# Altium footprint library 5015681407.PcbLib: 1 footprints
Each footprint in its own frame and in the unit in brackets; x right, y up, seen from the top. Pads: shape width x height; smd on the part's side, far side on the other; paste and mask are expansions set on the pad; w line width, h text height; cw(c..) or ccw(c..) is an arc to the next point about the centre after c.
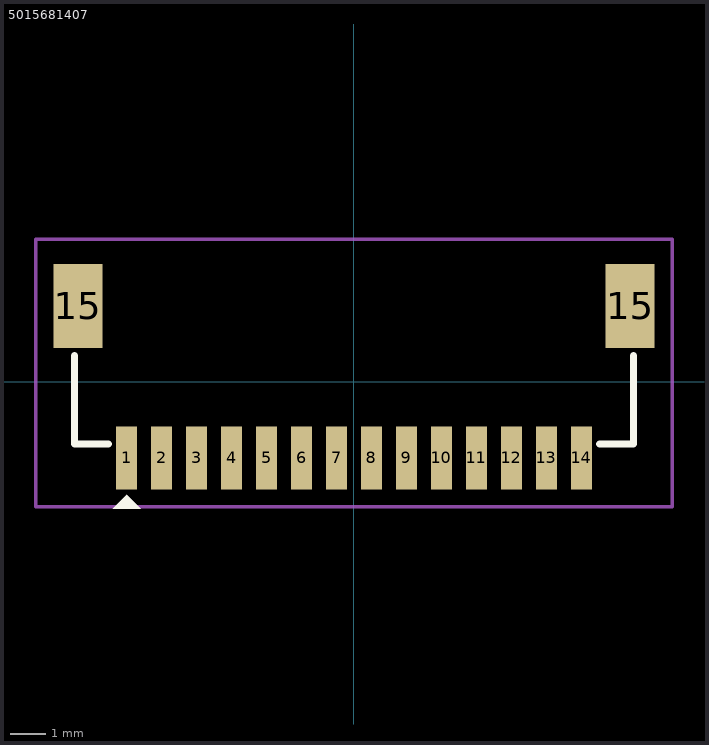
[diagram p0: the footprint, top view; thin cyan lines are the x and y axes]

## 5015681407 [mm]
pads (16):
  rect 0.6x1.8 smd: 1(-6.5,-2.175) 2(-5.5,-2.175) 3(-4.5,-2.175) 4(-3.5,-2.175) 5(-2.5,-2.175) 6(-1.5,-2.175) 7(-0.5,-2.175) 8(0.5,-2.175) 9(1.5,-2.175) 10(2.5,-2.175) 11(3.5,-2.175) 12(4.5,-2.175) 13(5.5,-2.175) 14(6.5,-2.175)
  rect 1.4x2.4 smd: 15(-7.9,2.175) 15(7.9,2.175)
Top Overlay:
  region: -6.1,-3.625 -6.9,-3.625 -6.5,-3.225
  lines w0.2: -8,0.75 -8,-1.775 -7.025,-1.775 ; 7.025,-1.775 8,-1.775 8,0.75
Top Courtyard:
  lines w0.1: -9.1,0.975 -9.1,-3.575 ; -9.1,-3.575 9.1,-3.575 9.1,4.075 -9.1,4.075 -9.1,-3.575
3D body "5015681407.stp": height 4.7, standoff 0, extent -8,-2.325 8,3.575